# EAGLE library part LTC3525 (library Eagle-JeeLabs)
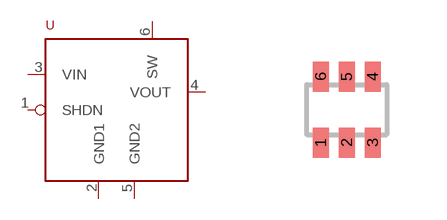
[diagram p25: symbol with the pads of SC70; footprint SC70]

Designator prefix -

## LTC3525  [SC70]
1  SHDN  in
2  GND1  pwr
3  VIN  hiz
4  VOUT  pwr
5  GND2  pwr
6  SW  pwr

## Footprint SC70 (pad centres in mm)
smd 0.4 x 0.75: 1 -0.65,-0.825; 2 0,-0.825; 3 0.65,-0.825; 4 0.65,0.825; 5 0,0.825; 6 -0.65,0.825